# EAGLE library part 105450-0101 (library usbC_105450-0101)
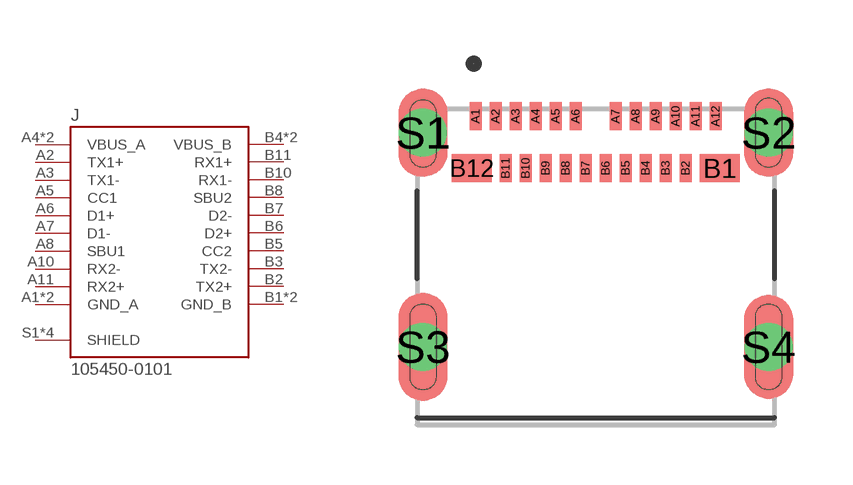
[diagram p0: symbol with the pads of MOLEX_105450-0101; footprint MOLEX_105450-0101]

Designator prefix J

## 105450-0101 (MANUFACTURER: Molex; MAXIMUM_PACKAGE_HEIGHT: 3.24mm; PARTREV: A7; STANDARD: Manufacturer Recommendations)  [MOLEX_105450-0101]
A1  GND_A  pwr
A2  TX1+
A3  TX1-
A4  VBUS_A  pwr
A5  CC1
A6  D1+
A7  D1-
A8  SBU1
A9  VBUS_A  pwr
A10  RX2-
A11  RX2+
A12  GND_A  pwr
B1  GND_B  pwr
B2  TX2+
B3  TX2-
B4  VBUS_B  pwr
B5  CC2
B6  D2+
B7  D2-
B8  SBU2
B9  VBUS_B  pwr
B10  RX1-
B11  RX1+
B12  GND_B  pwr
S1  SHIELD  pas
S2  SHIELD  pas
S3  SHIELD  pas
S4  SHIELD  pas

## Footprint MOLEX_105450-0101 (pad centres in mm)
smd 0.3 x 0.7: A1 -3,3.77; A2 -2.5,3.77; A3 -2,3.77; A4 -1.5,3.77; A5 -1,3.77; A6 -0.5,3.77; A7 0.5,3.77; A8 1,3.77; A9 1.5,3.77; A10 2,3.77; A11 2.5,3.77; A12 3,3.77; B2 2.25,2.47; B3 1.75,2.47; B4 1.25,2.47; B5 0.75,2.47; B6 0.25,2.47; B7 -0.25,2.47; B8 -0.75,2.47; B9 -1.25,2.47; B10 -1.75,2.47; B11 -2.25,2.47
smd 1 x 0.7: B1 3.1,2.47; B12 -3.1,2.47
drill 0.65 pad 1.2: S1 -4.32,3.36; S2 4.32,3.36; S3 -4.32,-2; S4 4.32,-2